# Altium footprint library SO.PcbLib: 31 footprints (part 1 of 2)
Each footprint in its own frame and in the unit in brackets; x right, y up, seen from the top. Pads: shape width x height; smd on the part's side, far side on the other; paste and mask are expansions set on the pad; w line width, h text height; cw(c..) or ccw(c..) is an arc to the next point about the centre after c.
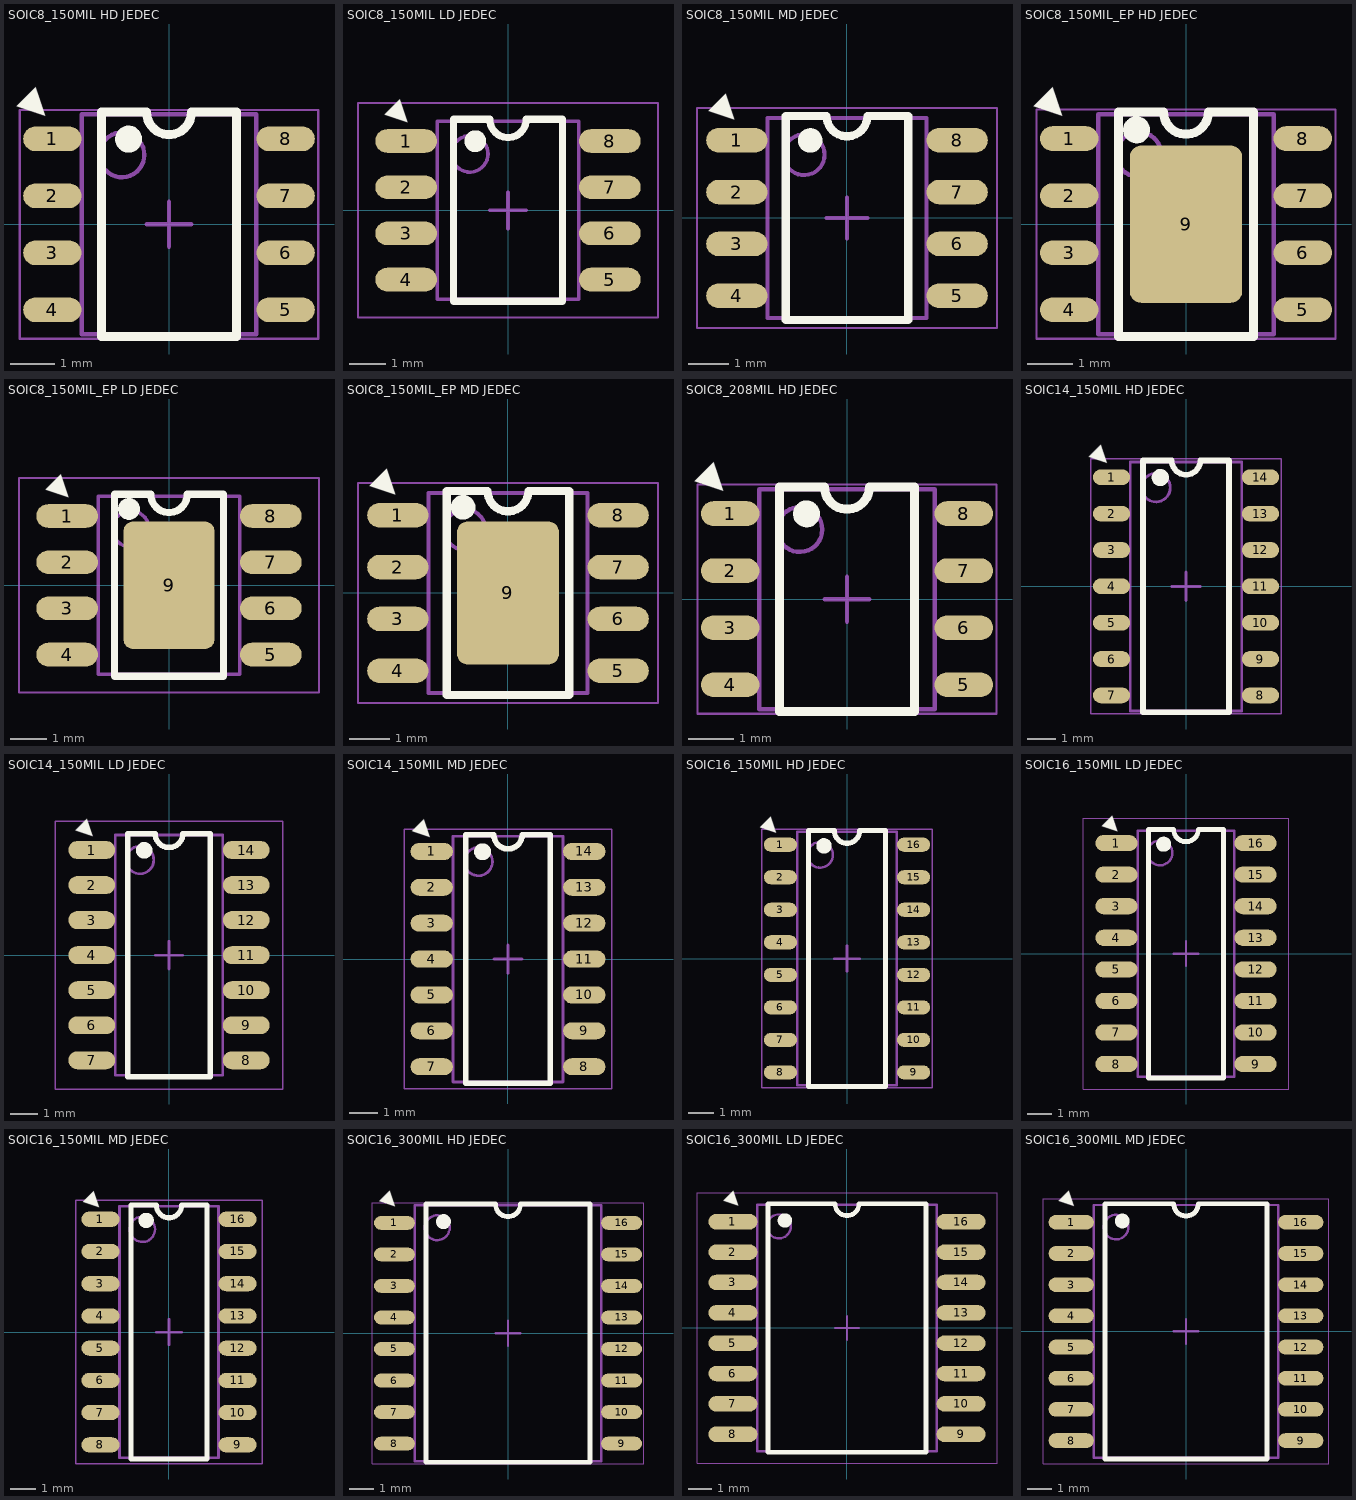
[diagram p0: the footprints below, top view; thin cyan lines are the x and y axes]

## SOIC8_150MIL HD JEDEC [mm] "SOIC, 8-Leads, Body 4,90x3,90mm, Pitch 1,27mm, IPC High Density"
height 1.75
pads (8):
  oval 1.3x0.55 smd mask+0.05: 1(-2.6,1.905) 2(-2.6,0.635) 3(-2.6,-0.635) 4(-2.6,-1.905) 5(2.6,-1.905) 6(2.6,-0.635) 7(2.6,0.635) 8(2.6,1.905)
Top Overlay:
  circle w0.3: c-0.9,1.9 r0.15
  lines w0.2: -1.5,-2.5 -1.5,2.5 -0.5,2.5 ccw(c0,2.5) 0.5,2.5 1.5,2.5 1.5,-2.5 -1.5,-2.5
  text "▲" at -3.042,3.132 h1
Top Assembly:
  circle w0.1: c-1.05,1.55 r0.5
  lines w0.1: -1.95,-2.45 1.95,-2.45 1.95,2.45 -1.95,2.45 -1.95,-2.45
Top Courtyard:
  lines w0.05: -3.325,-2.55 3.325,-2.55 3.325,2.55 -3.325,2.55 -3.325,-2.55
Top Component Center:
  lines w0.1: -0.5,0 0.5,0 ; 0,-0.5 0,0.5
3D body "SOIC8_150MIL HD JEDEC.step": height 1.75, standoff 0, extent -3,-2.45 3,2.45

## SOIC8_150MIL LD JEDEC [mm] "SOIC, 8-Leads, Body 4,90x3,90mm, Pitch 1,27mm, IPC Low Density"
height 1.75
pads (8):
  oval 1.7x0.65 smd mask+0.05: 1(-2.8,1.905) 2(-2.8,0.635) 3(-2.8,-0.635) 4(-2.8,-1.905) 5(2.8,-1.905) 6(2.8,-0.635) 7(2.8,0.635) 8(2.8,1.905)
Top Overlay:
  circle w0.3: c-0.9,1.9 r0.15
  lines w0.2: -1.5,-2.5 -1.5,2.5 -0.5,2.5 ccw(c0,2.5) 0.5,2.5 1.5,2.5 1.5,-2.5 -1.5,-2.5
  text "▲" at -3.031,3.121 h1
Top Assembly:
  circle w0.1: c-1.05,1.55 r0.5
  lines w0.1: -1.95,-2.45 -1.95,2.45 1.95,2.45 1.95,-2.45 -1.95,-2.45
Top Courtyard:
  lines w0.05: -4.125,-2.95 -4.125,2.95 4.125,2.95 4.125,-2.95 -4.125,-2.95
Top Component Center:
  lines w0.1: -0.5,0 0.5,0 ; 0,-0.5 0,0.5
3D body "SOIC8_150MIL LD JEDEC.step": height 1.75, standoff 0, extent -3,-2.45 3,2.45

## SOIC8_150MIL MD JEDEC [mm] "SOIC, 8-Leads, Body 4,90x3,90mm, Pitch 1,27mm, IPC Medium Density"
height 1.75
pads (8):
  oval 1.5x0.6 smd mask+0.05: 1(-2.7,1.905) 2(-2.7,0.635) 3(-2.7,-0.635) 4(-2.7,-1.905) 5(2.7,-1.905) 6(2.7,-0.635) 7(2.7,0.635) 8(2.7,1.905)
Top Overlay:
  circle w0.3: c-0.9,1.9 r0.15
  lines w0.2: -1.5,-2.5 1.5,-2.5 1.5,2.5 0.5,2.5 cw(c0,2.5) -0.5,2.5 -1.5,2.5 -1.5,-2.5
  text "▲" at -3.031,3.121 h1
Top Assembly:
  circle w0.1: c-1.05,1.55 r0.5
  lines w0.1: -1.95,-2.45 -1.95,2.45 1.95,2.45 1.95,-2.45 -1.95,-2.45
Top Courtyard:
  lines w0.05: -3.675,-2.7 -3.675,2.7 3.675,2.7 3.675,-2.7 -3.675,-2.7
Top Component Center:
  lines w0.1: -0.5,0 0.5,0 ; 0,-0.5 0,0.5
3D body "SOIC8_150MIL MD JEDEC.step": height 1.75, standoff 0, extent -3,-2.45 3,2.45

## SOIC8_150MIL_EP HD JEDEC [mm] "SOIC, 8-Leads, Body 4,90x3,90mm, Pitch 1,27mm, IPC High Density"
height 1.75
pads (9):
  oval 1.3x0.55 smd mask+0.05: 1(-2.6,1.905) 2(-2.6,0.635) 3(-2.6,-0.635) 4(-2.6,-1.905) 5(2.6,-1.905) 6(2.6,-0.635) 7(2.6,0.635) 8(2.6,1.905)
  rrect20% 2.5x3.5 smd mask+0.05: 9(0,0)
Top Overlay:
  circle w0.3: c-1.1,2.1 r0.15
  lines w0.2: -1.5,-2.5 -1.5,2.5 -0.5,2.5 ccw(c0,2.5) 0.5,2.5 1.5,2.5 1.5,-2.5 -1.5,-2.5
  text "▲" at -3.031,3.121 h1
Top Assembly:
  circle w0.1: c-1.05,1.55 r0.5
  lines w0.1: -1.95,-2.45 1.95,-2.45 1.95,2.45 -1.95,2.45 -1.95,-2.45
Top Courtyard:
  lines w0.05: -3.325,-2.55 3.325,-2.55 3.325,2.55 -3.325,2.55 -3.325,-2.55
Top Component Center:
  lines w0.1: -0.5,0 0.5,0 ; 0,-0.5 0,0.5
3D body "SOIC8_150MIL HD JEDEC.step": height 1.75, standoff 0, extent -3,-2.45 3,2.45

## SOIC8_150MIL_EP LD JEDEC [mm] "SOIC, 8-Leads, Body 4,90x3,90mm, Pitch 1,27mm, IPC Low Density"
height 1.75
pads (9):
  oval 1.7x0.65 smd mask+0.05: 1(-2.8,1.905) 2(-2.8,0.635) 3(-2.8,-0.635) 4(-2.8,-1.905) 5(2.8,-1.905) 6(2.8,-0.635) 7(2.8,0.635) 8(2.8,1.905)
  rrect20% 2.5x3.5 smd mask+0.05: 9(0,0)
Top Overlay:
  circle w0.3: c-1.1,2.1 r0.15
  lines w0.2: -1.5,-2.5 1.5,-2.5 1.5,2.5 0.5,2.5 cw(c0,2.5) -0.5,2.5 -1.5,2.5 -1.5,-2.5
  text "▲" at -3.031,3.121 h1
Top Assembly:
  circle w0.1: c-1.05,1.55 r0.5
  lines w0.1: -1.95,-2.45 1.95,-2.45 1.95,2.45 -1.95,2.45 -1.95,-2.45
Top Courtyard:
  lines w0.05: -4.125,-2.95 4.125,-2.95 4.125,2.95 -4.125,2.95 -4.125,-2.95
Top Component Center:
  lines w0.1: -0.5,0 0.5,0 ; 0,-0.5 0,0.5
3D body "SOIC8_150MIL LD JEDEC.step": height 1.75, standoff 0, extent -3,-2.45 3,2.45

## SOIC8_150MIL_EP MD JEDEC [mm] "SOIC, 8-Leads, Body 4,90x3,90mm, Pitch 1,27mm, IPC Medium Density"
height 1.75
pads (9):
  oval 1.5x0.6 smd mask+0.05: 1(-2.7,1.905) 2(-2.7,0.635) 3(-2.7,-0.635) 4(-2.7,-1.905) 5(2.7,-1.905) 6(2.7,-0.635) 7(2.7,0.635) 8(2.7,1.905)
  rrect20% 2.5x3.5 smd mask+0.05: 9(0,0)
Top Overlay:
  circle w0.3: c-1.1,2.1 r0.15
  lines w0.2: -1.5,-2.5 -1.5,2.5 -0.5,2.5 ccw(c0,2.5) 0.5,2.5 1.5,2.5 1.5,-2.5 -1.5,-2.5
  text "▲" at -3.031,3.121 h1
Top Assembly:
  circle w0.1: c-1.05,1.55 r0.5
  lines w0.1: -1.95,-2.45 1.95,-2.45 1.95,2.45 -1.95,2.45 -1.95,-2.45
Top Courtyard:
  lines w0.05: -3.675,-2.7 3.675,-2.7 3.675,2.7 -3.675,2.7 -3.675,-2.7
Top Component Center:
  lines w0.1: -0.5,0 0.5,0 ; 0,-0.5 0,0.5
3D body "SOIC8_150MIL MD JEDEC.step": height 1.75, standoff 0, extent -3,-2.45 3,2.45

## SOIC8_208MIL HD JEDEC [mm]
height 1.75
pads (8):
  oval 1.3x0.55 smd mask+0.05: 1(-2.6,1.905) 2(-2.6,0.635) 3(-2.6,-0.635) 4(-2.6,-1.905) 5(2.6,-1.905) 6(2.6,-0.635) 7(2.6,0.635) 8(2.6,1.905)
Top Overlay:
  circle w0.3: c-0.9,1.9 r0.15
  lines w0.2: -1.5,-2.5 -1.5,2.5 -0.5,2.5 ccw(c0,2.5) 0.5,2.5 1.5,2.5 1.5,-2.5 -1.5,-2.5
  text "▲" at -3.031,3.121 h1
Top Assembly:
  circle w0.1: c-1.05,1.55 r0.5
  lines w0.1: -1.95,-2.45 1.95,-2.45 1.95,2.45 -1.95,2.45 -1.95,-2.45
Top Courtyard:
  lines w0.05: -3.325,-2.55 3.325,-2.55 3.325,2.55 -3.325,2.55 -3.325,-2.55
Top Component Center:
  lines w0.1: -0.5,0 0.5,0 ; 0,-0.5 0,0.5
3D body "SOIC8_150MIL HD JEDEC.step": height 1.75, standoff 0, extent -3,-2.45 3,2.45

## SOIC14_150MIL HD JEDEC [mm] "SOIC, 14-Leads, Body 8,65x3,90mm, Pitch 1,27mm, IPC High Density"
height 1.75
pads (14):
  oval 1.3x0.55 smd mask+0.05: 1(-2.6,3.81) 2(-2.6,2.54) 3(-2.6,1.27) 4(-2.6,0) 5(-2.6,-1.27) 6(-2.6,-2.54) 7(-2.6,-3.81) 8(2.6,-3.81) 9(2.6,-2.54) 10(2.6,-1.27) 11(2.6,0) 12(2.6,1.27) 13(2.6,2.54) 14(2.6,3.81)
Top Overlay:
  circle w0.3: c-0.9,3.8 r0.15
  lines w0.2: -1.5,-4.4 1.5,-4.4 1.5,4.4 0.5,4.4 cw(c0,4.4) -0.5,4.4 -1.5,4.4 -1.5,-4.4
  text "▲" at -3.031,5.021 h1
Top Assembly:
  circle w0.1: c-1.05,3.45 r0.5
  lines w0.1: -1.95,-4.35 -1.95,4.35 1.95,4.35 1.95,-4.35 -1.95,-4.35
Top Courtyard:
  lines w0.05: -3.325,-4.45 -3.325,4.45 3.325,4.45 3.325,-4.45 -3.325,-4.45
Top Component Center:
  lines w0.1: -0.5,0 0.5,0 ; 0,-0.5 0,0.5
3D body "SOIC14_150MIL HD JEDEC.step": height 1.75, standoff 0, extent -3,-4.35 3,4.35

## SOIC14_150MIL LD JEDEC [mm] "SOIC, 14-Leads, Body 8,65x3,90mm, Pitch 1,27mm, IPC Low Density"
height 1.75
pads (14):
  oval 1.7x0.65 smd mask+0.05: 1(-2.8,3.81) 2(-2.8,2.54) 3(-2.8,1.27) 4(-2.8,0) 5(-2.8,-1.27) 6(-2.8,-2.54) 7(-2.8,-3.81) 8(2.8,-3.81) 9(2.8,-2.54) 10(2.8,-1.27) 11(2.8,0) 12(2.8,1.27) 13(2.8,2.54) 14(2.8,3.81)
Top Overlay:
  circle w0.3: c-0.9,3.8 r0.15
  lines w0.2: -1.5,-4.4 -1.5,4.4 -0.5,4.4 ccw(c0,4.4) 0.5,4.4 1.5,4.4 1.5,-4.4 -1.5,-4.4
  text "▲" at -3.031,5.021 h1
Top Assembly:
  circle w0.1: c-1.05,3.45 r0.5
  lines w0.1: -1.95,-4.35 -1.95,4.35 1.95,4.35 1.95,-4.35 -1.95,-4.35
Top Courtyard:
  lines w0.05: -4.125,-4.85 -4.125,4.85 4.125,4.85 4.125,-4.85 -4.125,-4.85
Top Component Center:
  lines w0.1: -0.5,0 0.5,0 ; 0,-0.5 0,0.5
3D body "SOIC14_150MIL LD JEDEC.step": height 1.75, standoff 0, extent -3,-4.35 3,4.35

## SOIC14_150MIL MD JEDEC [mm] "SOIC, 14-Leads, Body 8,65x3,90mm, Pitch 1,27mm, IPC Medium Density"
height 1.75
pads (14):
  oval 1.5x0.6 smd mask+0.05: 1(-2.7,3.81) 2(-2.7,2.54) 3(-2.7,1.27) 4(-2.7,0) 5(-2.7,-1.27) 6(-2.7,-2.54) 7(-2.7,-3.81) 8(2.7,-3.81) 9(2.7,-2.54) 10(2.7,-1.27) 11(2.7,0) 12(2.7,1.27) 13(2.7,2.54) 14(2.7,3.81)
Top Overlay:
  circle w0.3: c-0.9,3.8 r0.15
  lines w0.2: -1.5,-4.4 -1.5,4.4 -0.5,4.4 ccw(c0,4.4) 0.5,4.4 1.5,4.4 1.5,-4.4 -1.5,-4.4
  text "▲" at -3.031,5.021 h1
Top Assembly:
  circle w0.1: c-1.05,3.45 r0.5
  lines w0.1: -1.95,-4.35 -1.95,4.35 1.95,4.35 1.95,-4.35 -1.95,-4.35
Top Courtyard:
  lines w0.05: -3.675,-4.6 -3.675,4.6 3.675,4.6 3.675,-4.6 -3.675,-4.6
Top Component Center:
  lines w0.1: -0.5,0 0.5,0 ; 0,-0.5 0,0.5
3D body "SOIC14_150MIL MD JEDEC.step": height 1.75, standoff 0, extent -3,-4.35 3,4.35

## SOIC16_150MIL HD JEDEC [mm] "SOIC, 16-Leads, Body 9,90x3,90mm, Pitch 1,27mm, IPC High Density"
height 1.75
pads (16):
  oval 1.3x0.55 smd mask+0.05: 1(-2.6,4.445) 2(-2.6,3.175) 3(-2.6,1.905) 4(-2.6,0.635) 5(-2.6,-0.635) 6(-2.6,-1.905) 7(-2.6,-3.175) 8(-2.6,-4.445) 9(2.6,-4.445) 10(2.6,-3.175) 11(2.6,-1.905) 12(2.6,-0.635) 13(2.6,0.635) 14(2.6,1.905) 15(2.6,3.175) 16(2.6,4.445)
Top Overlay:
  circle w0.3: c-0.9,4.4 r0.15
  lines w0.2: -1.5,-5 1.5,-5 1.5,5 0.5,5 cw(c0,5) -0.5,5 -1.5,5 -1.5,-5
  text "▲" at -3.031,5.621 h1
Top Assembly:
  circle w0.1: c-1.05,4.05 r0.5
  lines w0.1: -1.95,-4.95 -1.95,4.95 1.95,4.95 1.95,-4.95 -1.95,-4.95
Top Courtyard:
  lines w0.05: -3.325,-5.05 -3.325,5.05 3.325,5.05 3.325,-5.05 -3.325,-5.05
Top Component Center:
  lines w0.1: -0.5,0 0.5,0 ; 0,-0.5 0,0.5
3D body "SOIC16_150MIL HD JEDEC.step": height 1.75, standoff 0, extent -3,-4.95 3,4.95

## SOIC16_150MIL LD JEDEC [mm] "SOIC, 16-Leads, Body 9,90x3,90mm, Pitch 1,27mm, IPC Low Density"
height 1.75
pads (16):
  oval 1.7x0.65 smd mask+0.05: 1(-2.8,4.445) 2(-2.8,3.175) 3(-2.8,1.905) 4(-2.8,0.635) 5(-2.8,-0.635) 6(-2.8,-1.905) 7(-2.8,-3.175) 8(-2.8,-4.445) 9(2.8,-4.445) 10(2.8,-3.175) 11(2.8,-1.905) 12(2.8,-0.635) 13(2.8,0.635) 14(2.8,1.905) 15(2.8,3.175) 16(2.8,4.445)
Top Overlay:
  circle w0.3: c-0.9,4.4 r0.15
  lines w0.2: -1.5,-5 -1.5,5 -0.5,5 ccw(c0,5) 0.5,5 1.5,5 1.5,-5 -1.5,-5
  text "▲" at -3.031,5.621 h1
Top Assembly:
  circle w0.1: c-1.05,4.05 r0.5
  lines w0.1: -1.95,-4.95 1.95,-4.95 1.95,4.95 -1.95,4.95 -1.95,-4.95
Top Courtyard:
  lines w0.05: -4.125,-5.45 4.125,-5.45 4.125,5.45 -4.125,5.45 -4.125,-5.45
Top Component Center:
  lines w0.1: -0.5,0 0.5,0 ; 0,-0.5 0,0.5
3D body "SOIC16_150MIL LD JEDEC.step": height 1.75, standoff 0, extent -3,-4.95 3,4.95

## SOIC16_150MIL MD JEDEC [mm] "SOIC, 16-Leads, Body 9,90x3,90mm, Pitch 1,27mm, IPC Medium Density"
height 1.75
pads (16):
  oval 1.5x0.6 smd mask+0.05: 1(-2.7,4.445) 2(-2.7,3.175) 3(-2.7,1.905) 4(-2.7,0.635) 5(-2.7,-0.635) 6(-2.7,-1.905) 7(-2.7,-3.175) 8(-2.7,-4.445) 9(2.7,-4.445) 10(2.7,-3.175) 11(2.7,-1.905) 12(2.7,-0.635) 13(2.7,0.635) 14(2.7,1.905) 15(2.7,3.175) 16(2.7,4.445)
Top Overlay:
  circle w0.3: c-0.9,4.4 r0.15
  lines w0.2: -1.5,-5 -1.5,5 -0.5,5 ccw(c0,5) 0.5,5 1.5,5 1.5,-5 -1.5,-5
  text "▲" at -3.031,5.621 h1
Top Assembly:
  circle w0.1: c-1.05,4.05 r0.5
  lines w0.1: -1.95,-4.95 -1.95,4.95 1.95,4.95 1.95,-4.95 -1.95,-4.95
Top Courtyard:
  lines w0.05: -3.675,-5.2 -3.675,5.2 3.675,5.2 3.675,-5.2 -3.675,-5.2
Top Component Center:
  lines w0.1: -0.5,0 0.5,0 ; 0,-0.5 0,0.5
3D body "SOIC16_150MIL MD JEDEC.step": height 1.75, standoff 0, extent -3,-4.95 3,4.95

## SOIC16_300MIL HD JEDEC [mm] "SOIC, 16-Leads, Body 10,30x7,50mm, Pitch 1,27mm, IPC High Density"
height 2.65
pads (16):
  oval 1.65x0.55 smd mask+0.05: 1(-4.575,4.445) 2(-4.575,3.175) 3(-4.575,1.905) 4(-4.575,0.635) 5(-4.575,-0.635) 6(-4.575,-1.905) 7(-4.575,-3.175) 8(-4.575,-4.445) 9(4.575,-4.445) 10(4.575,-3.175) 11(4.575,-1.905) 12(4.575,-0.635) 13(4.575,0.635) 14(4.575,1.905) 15(4.575,3.175) 16(4.575,4.445)
Top Overlay:
  circle w0.3: c-2.6,4.5 r0.15
  lines w0.2: -3.3,-5.2 3.3,-5.2 3.3,5.2 0.5,5.2 cw(c0,5.2) -0.5,5.2 -3.3,5.2 -3.3,-5.2
  text "▲" at -4.831,5.821 h1
Top Assembly:
  circle w0.1: c-2.85,4.25 r0.5
  lines w0.1: -3.75,-5.15 3.75,-5.15 3.75,5.15 -3.75,5.15 -3.75,-5.15
Top Courtyard:
  lines w0.05: -5.475,-5.25 5.475,-5.25 5.475,5.25 -5.475,5.25 -5.475,-5.25
Top Component Center:
  lines w0.1: -0.5,0 0.5,0 ; 0,-0.5 0,0.5
3D body "SOIC16_300MIL HD JEDEC.step": height 2.65, standoff 0, extent -5.15,-5.15 5.15,5.15

## SOIC16_300MIL LD JEDEC [mm] "SOIC, 16-Leads, Body 10,30x7,50mm, Pitch 1,27mm, IPC Low Density"
height 2.65
pads (16):
  oval 2.05x0.65 smd mask+0.05: 1(-4.775,4.445) 2(-4.775,3.175) 3(-4.775,1.905) 4(-4.775,0.635) 5(-4.775,-0.635) 6(-4.775,-1.905) 7(-4.775,-3.175) 8(-4.775,-4.445) 9(4.775,-4.445) 10(4.775,-3.175) 11(4.775,-1.905) 12(4.775,-0.635) 13(4.775,0.635) 14(4.775,1.905) 15(4.775,3.175) 16(4.775,4.445)
Top Overlay:
  circle w0.3: c-2.6,4.5 r0.15
  lines w0.2: -3.3,-5.2 3.3,-5.2 3.3,5.2 0.5,5.2 cw(c0,5.2) -0.5,5.2 -3.3,5.2 -3.3,-5.2
  text "▲" at -4.831,5.821 h1
Top Assembly:
  circle w0.1: c-2.85,4.25 r0.5
  lines w0.1: -3.75,-5.15 -3.75,5.15 3.75,5.15 3.75,-5.15 -3.75,-5.15
Top Courtyard:
  lines w0.05: -6.275,-5.65 -6.275,5.65 6.275,5.65 6.275,-5.65 -6.275,-5.65
Top Component Center:
  lines w0.1: -0.5,0 0.5,0 ; 0,-0.5 0,0.5
3D body "SOIC16_300MIL LD JEDEC.step": height 2.65, standoff 0, extent -5.15,-5.15 5.15,5.15

## SOIC16_300MIL MD JEDEC [mm] "SOIC, 16-Leads, Body 10,30x7,50mm, Pitch 1,27mm, IPC Medium Density"
height 2.65
pads (16):
  oval 1.85x0.6 smd mask+0.05: 1(-4.675,4.445) 2(-4.675,3.175) 3(-4.675,1.905) 4(-4.675,0.635) 5(-4.675,-0.635) 6(-4.675,-1.905) 7(-4.675,-3.175) 8(-4.675,-4.445) 9(4.675,-4.445) 10(4.675,-3.175) 11(4.675,-1.905) 12(4.675,-0.635) 13(4.675,0.635) 14(4.675,1.905) 15(4.675,3.175) 16(4.675,4.445)
Top Overlay:
  circle w0.3: c-2.6,4.5 r0.15
  lines w0.2: -3.3,-5.2 3.3,-5.2 3.3,5.2 0.5,5.2 cw(c0,5.2) -0.5,5.2 -3.3,5.2 -3.3,-5.2
  text "▲" at -4.831,5.821 h1
Top Assembly:
  circle w0.1: c-2.85,4.25 r0.5
  lines w0.1: -3.75,-5.15 3.75,-5.15 3.75,5.15 -3.75,5.15 -3.75,-5.15
Top Courtyard:
  lines w0.05: -5.825,-5.4 5.825,-5.4 5.825,5.4 -5.825,5.4 -5.825,-5.4
Top Component Center:
  lines w0.1: -0.5,0 0.5,0 ; 0,-0.5 0,0.5
3D body "SOIC16_300MIL MD JEDEC.step": height 2.65, standoff 0, extent -5.15,-5.15 5.15,5.15